# EAGLE library part PINHD-2X3 (library Gekkio-connector)
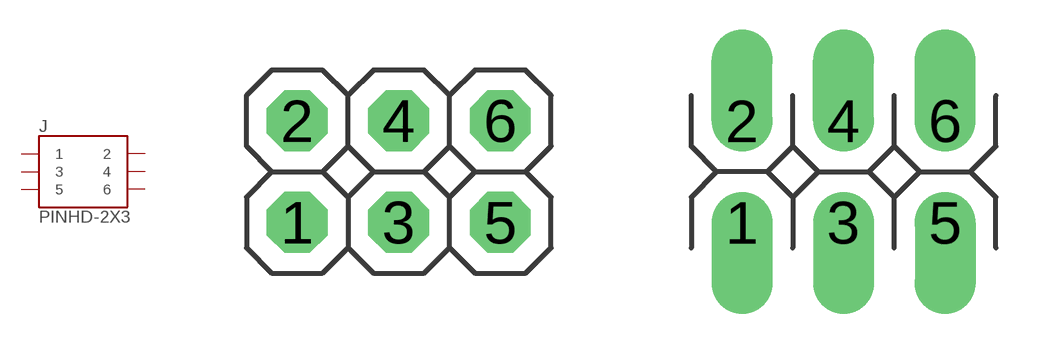
[diagram p12: symbol with the pads of 2X3; footprints 2X3, 2X3-LONGPADS]

Designator prefix J

## PINHD-2X3  [2X3]
1  1  pas
2  2  pas
3  3  pas
4  4  pas
5  5  pas
6  6  pas

## PINHD-2X3LONGPADS  [2X3-LONGPADS]
Pads as for 2X3

## Footprint 2X3 (pad centres in mm)
drill 1.016 octagon: 1 -2.54,-1.27; 2 -2.54,1.27; 3 0,-1.27; 4 0,1.27; 5 2.54,-1.27; 6 2.54,1.27

## Footprint 2X3-LONGPADS (pad centres in mm)
drill 1.016 offset: 1 -2.54,-1.27; 2 -2.54,1.27; 3 0,-1.27; 4 0,1.27; 5 2.54,-1.27; 6 2.54,1.27